# Altium schematic symbol library Isolator.SchLib: 324 symbols (part 3 of 4)
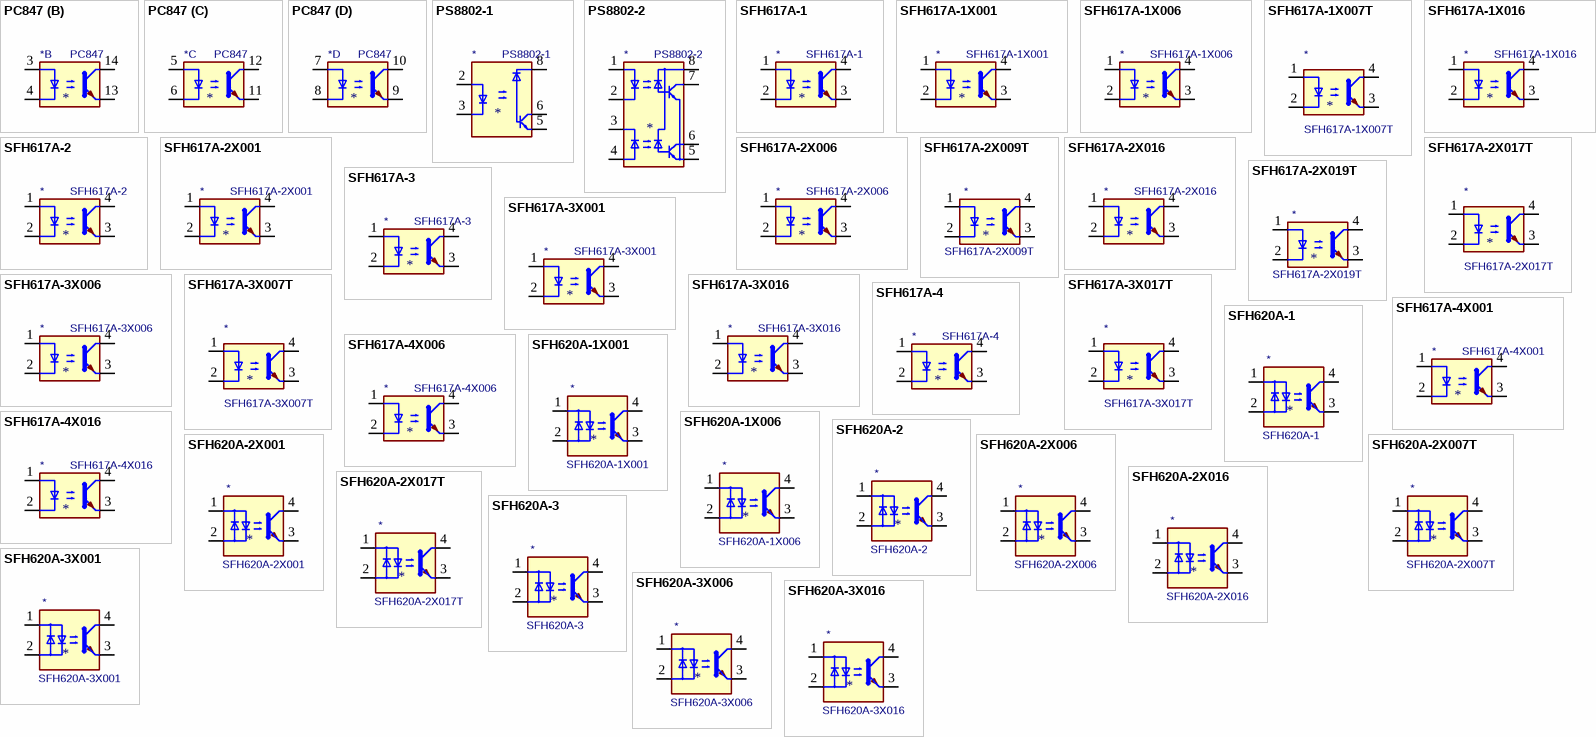
[diagram p11: symbols PC847 to SFH620A-3X016]

## SFH620A-2
designator *  value SFH620A-2
ki_keywords: Optocoupler, Phototransistor Output, 5300 VRMS, VCEO 70V, CTR% 63-200; ki_description: Optocoupler, Phototransistor Output, 5300 VRMS, VCEO 70V, CTR% 63-200 UL, cUL, BSI, THT PDIP-4; ki_fp_filters: DIP*W7.62mm*; Footprint: Package_DIP:DIP-4_W7.62mm; Supplier: http://www.vishay.com/docs/83675/sfh620a.pdf
footprint DIP-4_W7.62mm
pins: 1, 2, 3, 4

## SFH620A-2X001
designator *  value SFH620A-2X001
ki_keywords: Optocoupler, Phototransistor Output, 5300 VRMS, VCEO 70V, CTR% 63-200; ki_description: Optocoupler, Phototransistor Output, 5300 VRMS, VCEO 70V, CTR% 63-200 VDE, UL, CUL, BSI, THT PDIP-4; ki_fp_filters: DIP*W7.62mm*; Footprint: Package_DIP:DIP-4_W7.62mm; Supplier: http://www.vishay.com/docs/83675/sfh620a.pdf
footprint DIP-4_W7.62mm
pins: 1, 2, 3, 4

## SFH620A-2X006
designator *  value SFH620A-2X006
ki_keywords: Optocoupler, Phototransistor Output, 5300 VRMS, VCEO 70V, CTR% 63-200; ki_description: Optocoupler, Phototransistor Output, 5300 VRMS, VCEO 70V, CTR% 63-200 UL, cUL, BSI, THT PDIP-4; ki_fp_filters: DIP*W10.16mm*; Footprint: Package_DIP:DIP-4_W10.16mm; Supplier: http://www.vishay.com/docs/83675/sfh620a.pdf
footprint DIP-4_W10.16mm
pins: 1, 2, 3, 4

## SFH620A-2X007T
designator *  value SFH620A-2X007T
ki_keywords: Optocoupler, Phototransistor Output, 5300 VRMS, VCEO 70V, CTR% 63-200; ki_description: Optocoupler, Phototransistor Output, 5300 VRMS, VCEO 70V, CTR% 63-200 UL, cUL, BSI, SMD-4; ki_fp_filters: SMDIP*W9.53mm?Clearance8mm*; Footprint: Package_DIP:SMDIP-4_W9.53mm_Clearance8mm; Supplier: http://www.vishay.com/docs/83675/sfh620a.pdf
footprint SMDIP-4_W9.53mm_Clearance8mm
pins: 1, 2, 3, 4

## SFH620A-2X016
designator *  value SFH620A-2X016
ki_keywords: Optocoupler, Phototransistor Output, 5300 VRMS, VCEO 70V, CTR% 63-200; ki_description: Optocoupler, Phototransistor Output, 5300 VRMS, VCEO 70V, CTR% 63-200 VDE, UL, CUL, BSI, SMD-4; ki_fp_filters: DIP*W10.16mm*; Footprint: Package_DIP:DIP-4_W10.16mm; Supplier: http://www.vishay.com/docs/83675/sfh620a.pdf
footprint DIP-4_W10.16mm
pins: 1, 2, 3, 4

## SFH620A-2X017T
designator *  value SFH620A-2X017T
ki_keywords: Optocoupler, Phototransistor Output, 5300 VRMS, VCEO 70V, CTR% 63-200; ki_description: Optocoupler, Phototransistor Output, 5300 VRMS, VCEO 70V, CTR% 63-200 VDE, UL, CUL, BSI, SMD-4; ki_fp_filters: SMDIP*W9.53mm?Clearance8mm*; Footprint: Package_DIP:SMDIP-4_W9.53mm_Clearance8mm; Supplier: http://www.vishay.com/docs/83675/sfh620a.pdf
footprint SMDIP-4_W9.53mm_Clearance8mm
pins: 1, 2, 3, 4

## SFH620A-3
designator *  value SFH620A-3
ki_keywords: Optocoupler, Phototransistor Output, 5300 VRMS, VCEO 70V, CTR% 100-320; ki_description: Optocoupler, Phototransistor Output, 5300 VRMS, VCEO 70V, CTR% 100-320 UL, cUL, BSI, THT PDIP-4; ki_fp_filters: DIP*W7.62mm*; Footprint: Package_DIP:DIP-4_W7.62mm; Supplier: http://www.vishay.com/docs/83675/sfh620a.pdf
footprint DIP-4_W7.62mm
pins: 1, 2, 3, 4

## SFH620A-3X001
designator *  value SFH620A-3X001
ki_keywords: Optocoupler, Phototransistor Output, 5300 VRMS, VCEO 70V, CTR% 100-320; ki_description: Optocoupler, Phototransistor Output, 5300 VRMS, VCEO 70V, CTR% 100-320 VDE, UL, CUL, BSI, THT PDIP-4; ki_fp_filters: DIP*W7.62mm*; Footprint: Package_DIP:DIP-4_W7.62mm; Supplier: http://www.vishay.com/docs/83675/sfh620a.pdf
footprint DIP-4_W7.62mm
pins: 1, 2, 3, 4

## SFH620A-3X006
designator *  value SFH620A-3X006
ki_keywords: Optocoupler, Phototransistor Output, 5300 VRMS, VCEO 70V, CTR% 100-320; ki_description: Optocoupler, Phototransistor Output, 5300 VRMS, VCEO 70V, CTR% 100-320 UL, cUL, BSI, THT PDIP-4; ki_fp_filters: DIP*W10.16mm*; Footprint: Package_DIP:DIP-4_W10.16mm; Supplier: http://www.vishay.com/docs/83675/sfh620a.pdf
footprint DIP-4_W10.16mm
pins: 1, 2, 3, 4

## SFH620A-3X016
designator *  value SFH620A-3X016
ki_keywords: Optocoupler, Phototransistor Output, 5300 VRMS, VCEO 70V, CTR% 100-320; ki_description: Optocoupler, Phototransistor Output, 5300 VRMS, VCEO 70V, CTR% 100-320 VDE, UL, CUL, BSI, SMD-4; ki_fp_filters: DIP*W10.16mm*; Footprint: Package_DIP:DIP-4_W10.16mm; Supplier: http://www.vishay.com/docs/83675/sfh620a.pdf
footprint DIP-4_W10.16mm
pins: 1, 2, 3, 4

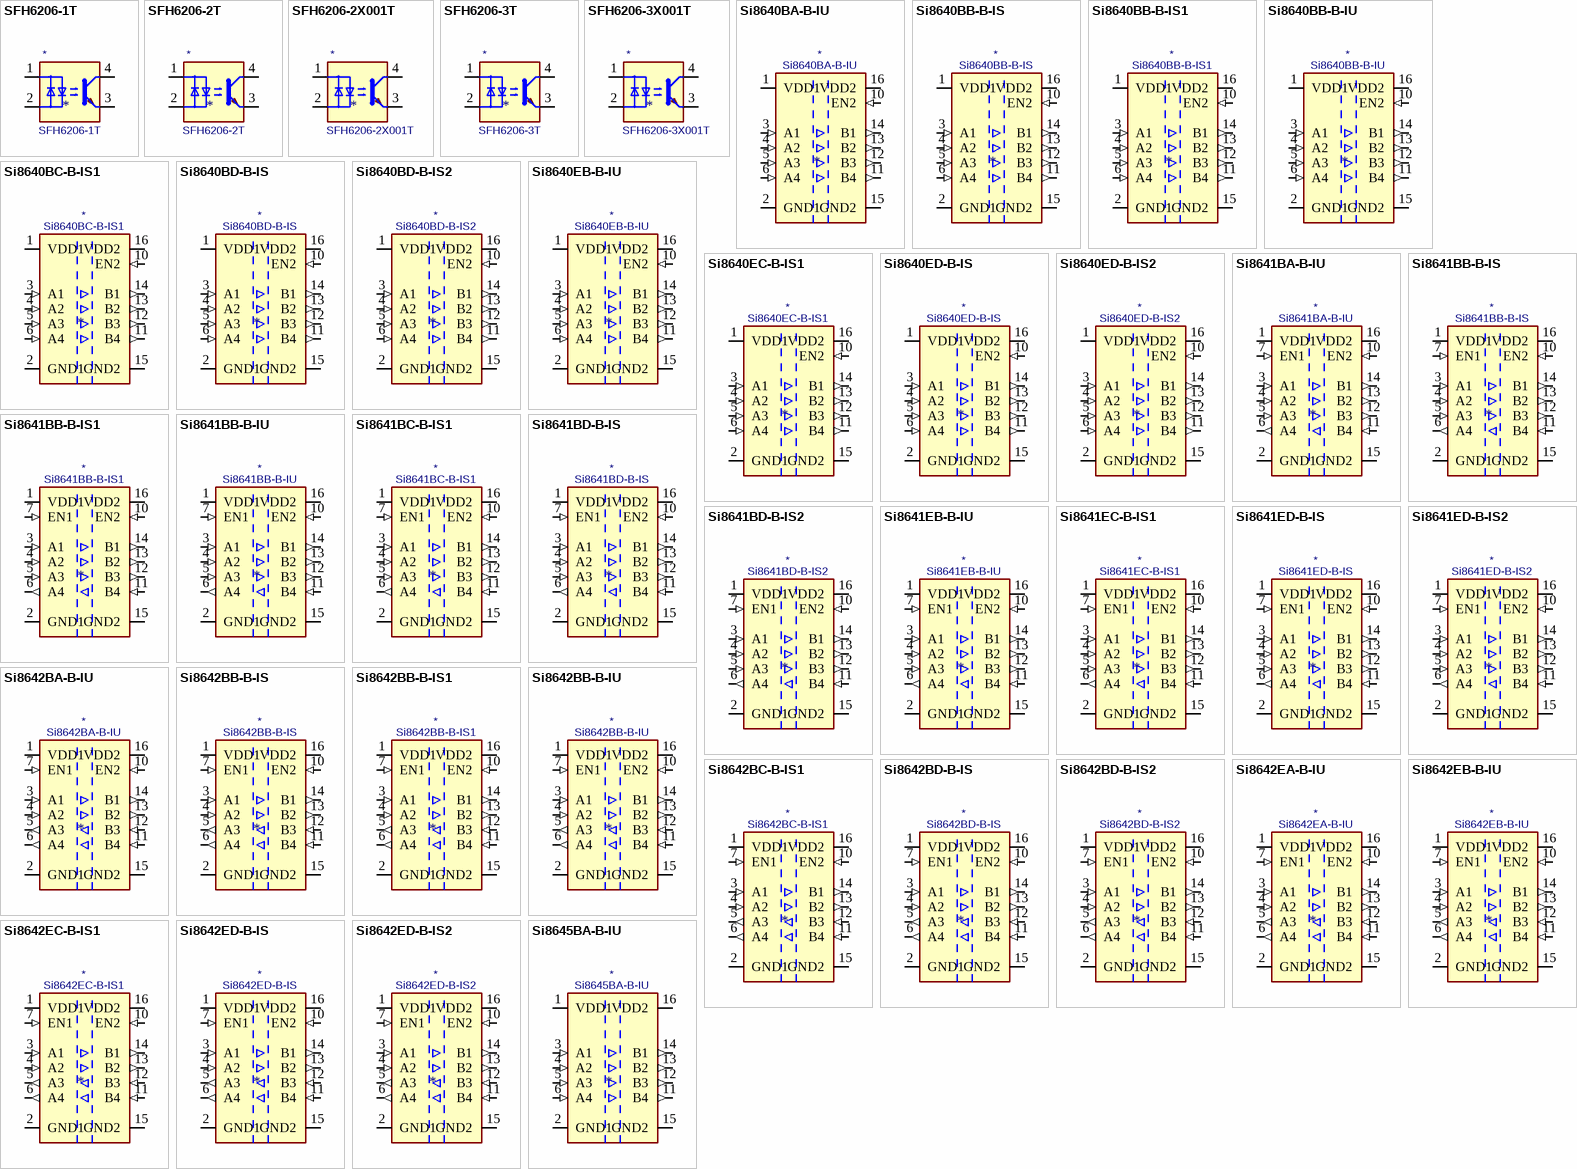
[diagram p6: symbols SFH6206-1T to Si8645BA-B-IU]

## SFH6206-1T
designator *  value SFH6206-1T
ki_keywords: Optocoupler, Phototransistor Output, 5300 VRMS, VCEO 70V, CTR% 40-125; ki_description: Optocoupler, Phototransistor Output, 5300 VRMS, VCEO 70V, CTR% 40-125, UL, cUL, BSI, SMD-4; ki_fp_filters: SMDIP*W9.53mm?Clearance8mm*; Footprint: Package_DIP:SMDIP-4_W9.53mm_Clearance8mm; Supplier: http://www.vishay.com/docs/83675/sfh620a.pdf
footprint SMDIP-4_W9.53mm_Clearance8mm
pins: 1, 2, 3, 4

## SFH6206-2T
designator *  value SFH6206-2T
ki_keywords: Optocoupler, Phototransistor Output, 5300 VRMS, VCEO 70V, CTR% 63-200; ki_description: Optocoupler, Phototransistor Output, 5300 VRMS, VCEO 70V, CTR% 63-200, UL, cUL, BSI, SMD-4; ki_fp_filters: SMDIP*W9.53mm?Clearance8mm*; Footprint: Package_DIP:SMDIP-4_W9.53mm_Clearance8mm; Supplier: http://www.vishay.com/docs/83675/sfh620a.pdf
footprint SMDIP-4_W9.53mm_Clearance8mm
pins: 1, 2, 3, 4

## SFH6206-2X001T
designator *  value SFH6206-2X001T
ki_keywords: Optocoupler, Phototransistor Output, 5300 VRMS, VCEO 70V, CTR% 63-200; ki_description: Optocoupler, Phototransistor Output, 5300 VRMS, VCEO 70V, CTR% 63-200, VDE, UL, CUL, BSI, SMD-4; ki_fp_filters: SMDIP*W9.53mm?Clearance8mm*; Footprint: Package_DIP:SMDIP-4_W9.53mm_Clearance8mm; Supplier: http://www.vishay.com/docs/83675/sfh620a.pdf
footprint SMDIP-4_W9.53mm_Clearance8mm
pins: 1, 2, 3, 4

## SFH6206-3T
designator *  value SFH6206-3T
ki_keywords: Optocoupler, Phototransistor Output, 5300 VRMS, VCEO 70V, CTR% 100-320; ki_description: Optocoupler, Phototransistor Output, 5300 VRMS, VCEO 70V, CTR% 100-320, UL, cUL, BSI, SMD-4; ki_fp_filters: SMDIP*W9.53mm?Clearance8mm*; Footprint: Package_DIP:SMDIP-4_W9.53mm_Clearance8mm; Supplier: http://www.vishay.com/docs/83675/sfh620a.pdf
footprint SMDIP-4_W9.53mm_Clearance8mm
pins: 1, 2, 3, 4

## SFH6206-3X001T
designator *  value SFH6206-3X001T
ki_keywords: Optocoupler, Phototransistor Output, 5300 VRMS, VCEO 70V, CTR% 100-320; ki_description: Optocoupler, Phototransistor Output, 5300 VRMS, VCEO 70V, CTR% 100-320, VDE, UL, CUL, BSI, SMD-4; ki_fp_filters: SMDIP*W9.53mm?Clearance8mm*; Footprint: Package_DIP:SMDIP-4_W9.53mm_Clearance8mm; Supplier: http://www.vishay.com/docs/83675/sfh620a.pdf
footprint SMDIP-4_W9.53mm_Clearance8mm
pins: 1, 2, 3, 4

## Si8640BA-B-IU
designator *  value Si8640BA-B-IU
ki_keywords: 4Ch 4In Quad Digital Isolator 150Mbps; ki_description: Low-Power Quad-Channel Digital Isolator, 150Mbps, 2.5-5.5V, 1.0kV isolation, Fail-Safe Low, QSOP-16; ki_fp_filters: QSOP*3.9x4.9mm*P0.635mm*; Footprint: Package_SO:QSOP-16_3.9x4.9mm_P0.635mm; Supplier: https://www.silabs.com/documents/public/data-sheets/si864x-datasheet.pdf
footprint QSOP-16_3.9x4.9mm_P0.635mm
pins: 1 VDD1 (power), 2 GND1 (power), 3 A1 (in), 4 A2 (in), 5 A3 (in), 6 A4 (in), 7 NC (in) hidden, 8 GND1 hidden, 9 GND2 hidden, 10 EN2 (in), 11 B4 (out), 12 B3 (out), 13 B2 (out), 14 B1 (out), 15 GND2 (power), 16 VDD2 (power)

## Si8640BB-B-IS
designator *  value Si8640BB-B-IS
ki_keywords: 4Ch 4In Quad Digital Isolator 150Mbps; ki_description: Low-Power Quad-Channel Digital Isolator, 150Mbps, 2.5-5.5V, 2.5kV isolation, Fail-Safe Low, SOIC-16W; ki_fp_filters: SOIC*7.5x10.3mm*P1.27mm*; Footprint: Package_SO:SOIC-16W_7.5x10.3mm_P1.27mm; Supplier: https://www.silabs.com/documents/public/data-sheets/si864x-datasheet.pdf
footprint SOIC-16W_7.5x10.3mm_P1.27mm
pins: 1 VDD1 (power), 2 GND1 (power), 3 A1 (in), 4 A2 (in), 5 A3 (in), 6 A4 (in), 7 NC (in) hidden, 8 GND1 hidden, 9 GND2 hidden, 10 EN2 (in), 11 B4 (out), 12 B3 (out), 13 B2 (out), 14 B1 (out), 15 GND2 (power), 16 VDD2 (power)

## Si8640BB-B-IS1
designator *  value Si8640BB-B-IS1
ki_keywords: 4Ch 4In Quad Digital Isolator 150Mbps; ki_description: Low-Power Quad-Channel Digital Isolator, 150Mbps, 2.5-5.5V, 2.5kV isolation, Fail-Safe Low, SOIC-16; ki_fp_filters: SOIC*3.9x9.9mm*P1.27mm*; Footprint: Package_SO:SOIC-16_3.9x9.9mm_P1.27mm; Supplier: https://www.silabs.com/documents/public/data-sheets/si864x-datasheet.pdf
footprint SOIC-16_3.9x9.9mm_P1.27mm
pins: 1 VDD1 (power), 2 GND1 (power), 3 A1 (in), 4 A2 (in), 5 A3 (in), 6 A4 (in), 7 NC (in) hidden, 8 GND1 hidden, 9 GND2 hidden, 10 EN2 (in), 11 B4 (out), 12 B3 (out), 13 B2 (out), 14 B1 (out), 15 GND2 (power), 16 VDD2 (power)

## Si8640BB-B-IU
designator *  value Si8640BB-B-IU
ki_keywords: 4Ch 4In Quad Digital Isolator 150Mbps; ki_description: Low-Power Quad-Channel Digital Isolator, 150Mbps, 2.5-5.5V, 2.5kV isolation, Fail-Safe Low, QSOP-16; ki_fp_filters: QSOP*3.9x4.9mm*P0.635mm*; Footprint: Package_SO:QSOP-16_3.9x4.9mm_P0.635mm; Supplier: https://www.silabs.com/documents/public/data-sheets/si864x-datasheet.pdf
footprint QSOP-16_3.9x4.9mm_P0.635mm
pins: 1 VDD1 (power), 2 GND1 (power), 3 A1 (in), 4 A2 (in), 5 A3 (in), 6 A4 (in), 7 NC (in) hidden, 8 GND1 hidden, 9 GND2 hidden, 10 EN2 (in), 11 B4 (out), 12 B3 (out), 13 B2 (out), 14 B1 (out), 15 GND2 (power), 16 VDD2 (power)

## Si8640BC-B-IS1
designator *  value Si8640BC-B-IS1
ki_keywords: 4Ch 4In Quad Digital Isolator 150Mbps; ki_description: Low-Power Quad-Channel Digital Isolator, 150Mbps, 2.5-5.5V, 3.75kV isolation, Fail-Safe Low, SOIC-16; ki_fp_filters: SOIC*3.9x9.9mm*P1.27mm*; Footprint: Package_SO:SOIC-16_3.9x9.9mm_P1.27mm; Supplier: https://www.silabs.com/documents/public/data-sheets/si864x-datasheet.pdf
footprint SOIC-16_3.9x9.9mm_P1.27mm
pins: 1 VDD1 (power), 2 GND1 (power), 3 A1 (in), 4 A2 (in), 5 A3 (in), 6 A4 (in), 7 NC (in) hidden, 8 GND1 hidden, 9 GND2 hidden, 10 EN2 (in), 11 B4 (out), 12 B3 (out), 13 B2 (out), 14 B1 (out), 15 GND2 (power), 16 VDD2 (power)

## Si8640BD-B-IS
designator *  value Si8640BD-B-IS
ki_keywords: 4Ch 4In Quad Digital Isolator 150Mbps; ki_description: Low-Power Quad-Channel Digital Isolator, 150Mbps, 2.5-5.5V, 5.0kV isolation, Fail-Safe Low, SOIC-16W; ki_fp_filters: SOIC*7.5x10.3mm*P1.27mm*; Footprint: Package_SO:SOIC-16W_7.5x10.3mm_P1.27mm; Supplier: https://www.silabs.com/documents/public/data-sheets/si864x-datasheet.pdf
footprint SOIC-16W_7.5x10.3mm_P1.27mm
pins: 1 VDD1 (power), 2 GND1 (power), 3 A1 (in), 4 A2 (in), 5 A3 (in), 6 A4 (in), 7 NC (in) hidden, 8 GND1 hidden, 9 GND2 hidden, 10 EN2 (in), 11 B4 (out), 12 B3 (out), 13 B2 (out), 14 B1 (out), 15 GND2 (power), 16 VDD2 (power)

## Si8640BD-B-IS2
designator *  value Si8640BD-B-IS2
ki_keywords: 4Ch 4In Quad Digital Isolator 150Mbps; ki_description: Low-Power Quad-Channel Digital Isolator, 150Mbps, 2.5-5.5V, 5.0kV isolation, Fail-Safe Low, 8mm creepage, SOIC-16W; ki_fp_filters: SOIC*7.5x10.3mm*P1.27mm*; Footprint: Package_SO:SOIC-16W_7.5x10.3mm_P1.27mm; Supplier: https://www.silabs.com/documents/public/data-sheets/si864x-datasheet.pdf
footprint SOIC-16W_7.5x10.3mm_P1.27mm
pins: 1 VDD1 (power), 2 GND1 (power), 3 A1 (in), 4 A2 (in), 5 A3 (in), 6 A4 (in), 7 NC (in) hidden, 8 GND1 hidden, 9 GND2 hidden, 10 EN2 (in), 11 B4 (out), 12 B3 (out), 13 B2 (out), 14 B1 (out), 15 GND2 (power), 16 VDD2 (power)

## Si8640EB-B-IU
designator *  value Si8640EB-B-IU
ki_keywords: 4Ch 4In Quad Digital Isolator 150Mbps; ki_description: Low-Power Quad-Channel Digital Isolator, 150Mbps, 2.5-5.5V, 2.5kV isolation, Fail-Safe High, QSOP-16; ki_fp_filters: QSOP*3.9x4.9mm*P0.635mm*; Footprint: Package_SO:QSOP-16_3.9x4.9mm_P0.635mm; Supplier: https://www.silabs.com/documents/public/data-sheets/si864x-datasheet.pdf
footprint QSOP-16_3.9x4.9mm_P0.635mm
pins: 1 VDD1 (power), 2 GND1 (power), 3 A1 (in), 4 A2 (in), 5 A3 (in), 6 A4 (in), 7 NC (in) hidden, 8 GND1 hidden, 9 GND2 hidden, 10 EN2 (in), 11 B4 (out), 12 B3 (out), 13 B2 (out), 14 B1 (out), 15 GND2 (power), 16 VDD2 (power)

## Si8640EC-B-IS1
designator *  value Si8640EC-B-IS1
ki_keywords: 4Ch 4In Quad Digital Isolator 150Mbps; ki_description: Low-Power Quad-Channel Digital Isolator, 150Mbps, 2.5-5.5V, 3.75kV isolation, Fail-Safe High, SOIC-16; ki_fp_filters: SOIC*3.9x9.9mm*P1.27mm*; Footprint: Package_SO:SOIC-16_3.9x9.9mm_P1.27mm; Supplier: https://www.silabs.com/documents/public/data-sheets/si864x-datasheet.pdf
footprint SOIC-16_3.9x9.9mm_P1.27mm
pins: 1 VDD1 (power), 2 GND1 (power), 3 A1 (in), 4 A2 (in), 5 A3 (in), 6 A4 (in), 7 NC (in) hidden, 8 GND1 hidden, 9 GND2 hidden, 10 EN2 (in), 11 B4 (out), 12 B3 (out), 13 B2 (out), 14 B1 (out), 15 GND2 (power), 16 VDD2 (power)

## Si8640ED-B-IS
designator *  value Si8640ED-B-IS
ki_keywords: 4Ch 4In Quad Digital Isolator 150Mbps; ki_description: Low-Power Quad-Channel Digital Isolator, 150Mbps, 2.5-5.5V, 5.0kV isolation, Fail-Safe High, SOIC-16W; ki_fp_filters: SOIC*7.5x10.3mm*P1.27mm*; Footprint: Package_SO:SOIC-16W_7.5x10.3mm_P1.27mm; Supplier: https://www.silabs.com/documents/public/data-sheets/si864x-datasheet.pdf
footprint SOIC-16W_7.5x10.3mm_P1.27mm
pins: 1 VDD1 (power), 2 GND1 (power), 3 A1 (in), 4 A2 (in), 5 A3 (in), 6 A4 (in), 7 NC (in) hidden, 8 GND1 hidden, 9 GND2 hidden, 10 EN2 (in), 11 B4 (out), 12 B3 (out), 13 B2 (out), 14 B1 (out), 15 GND2 (power), 16 VDD2 (power)

## Si8640ED-B-IS2
designator *  value Si8640ED-B-IS2
ki_keywords: 4Ch 4In Quad Digital Isolator 150Mbps; ki_description: Low-Power Quad-Channel Digital Isolator, 150Mbps, 2.5-5.5V, 5.0kV isolation, Fail-Safe High, 8mm creepage, SOIC-16W; ki_fp_filters: SOIC*7.5x10.3mm*P1.27mm*; Footprint: Package_SO:SOIC-16W_7.5x10.3mm_P1.27mm; Supplier: https://www.silabs.com/documents/public/data-sheets/si864x-datasheet.pdf
footprint SOIC-16W_7.5x10.3mm_P1.27mm
pins: 1 VDD1 (power), 2 GND1 (power), 3 A1 (in), 4 A2 (in), 5 A3 (in), 6 A4 (in), 7 NC (in) hidden, 8 GND1 hidden, 9 GND2 hidden, 10 EN2 (in), 11 B4 (out), 12 B3 (out), 13 B2 (out), 14 B1 (out), 15 GND2 (power), 16 VDD2 (power)

## Si8641BA-B-IU
designator *  value Si8641BA-B-IU
ki_keywords: 4Ch 3In 1Out Quad Digital Isolator 150Mbps; ki_description: Low-Power Quad-Channel Digital Isolator, 150Mbps, 2.5-5.5V, 1.0kV isolation, Fail-Safe Low, QSOP-16; ki_fp_filters: QSOP*3.9x4.9mm*P0.635mm*; Footprint: Package_SO:QSOP-16_3.9x4.9mm_P0.635mm; Supplier: https://www.silabs.com/documents/public/data-sheets/si864x-datasheet.pdf
footprint QSOP-16_3.9x4.9mm_P0.635mm
pins: 1 VDD1 (power), 2 GND1 (power), 3 A1 (in), 4 A2 (in), 5 A3 (in), 6 A4 (out), 7 EN1 (in), 8 GND1 hidden, 9 GND2 hidden, 10 EN2 (in), 11 B4 (in), 12 B3 (out), 13 B2 (out), 14 B1 (out), 15 GND2 (power), 16 VDD2 (power)

## Si8641BB-B-IS
designator *  value Si8641BB-B-IS
ki_keywords: 4Ch 3In 1Out Quad Digital Isolator 150Mbps; ki_description: Low-Power Quad-Channel Digital Isolator, 150Mbps, 2.5-5.5V, 2.5kV isolation, Fail-Safe Low, SOIC-16W; ki_fp_filters: SOIC*7.5x10.3mm*P1.27mm*; Footprint: Package_SO:SOIC-16W_7.5x10.3mm_P1.27mm; Supplier: https://www.silabs.com/documents/public/data-sheets/si864x-datasheet.pdf
footprint SOIC-16W_7.5x10.3mm_P1.27mm
pins: 1 VDD1 (power), 2 GND1 (power), 3 A1 (in), 4 A2 (in), 5 A3 (in), 6 A4 (out), 7 EN1 (in), 8 GND1 hidden, 9 GND2 hidden, 10 EN2 (in), 11 B4 (in), 12 B3 (out), 13 B2 (out), 14 B1 (out), 15 GND2 (power), 16 VDD2 (power)

## Si8641BB-B-IS1
designator *  value Si8641BB-B-IS1
ki_keywords: 4Ch 3In 1Out Quad Digital Isolator 150Mbps; ki_description: Low-Power Quad-Channel Digital Isolator, 150Mbps, 2.5-5.5V, 2.5kV isolation, Fail-Safe Low, SOIC-16; ki_fp_filters: SOIC*3.9x9.9mm*P1.27mm*; Footprint: Package_SO:SOIC-16_3.9x9.9mm_P1.27mm; Supplier: https://www.silabs.com/documents/public/data-sheets/si864x-datasheet.pdf
footprint SOIC-16_3.9x9.9mm_P1.27mm
pins: 1 VDD1 (power), 2 GND1 (power), 3 A1 (in), 4 A2 (in), 5 A3 (in), 6 A4 (out), 7 EN1 (in), 8 GND1 hidden, 9 GND2 hidden, 10 EN2 (in), 11 B4 (in), 12 B3 (out), 13 B2 (out), 14 B1 (out), 15 GND2 (power), 16 VDD2 (power)

## Si8641BB-B-IU
designator *  value Si8641BB-B-IU
ki_keywords: 4Ch 3In 1Out Quad Digital Isolator 150Mbps; ki_description: Low-Power Quad-Channel Digital Isolator, 150Mbps, 2.5-5.5V, 2.5kV isolation, Fail-Safe Low, QSOP-16; ki_fp_filters: QSOP*3.9x4.9mm*P0.635mm*; Footprint: Package_SO:QSOP-16_3.9x4.9mm_P0.635mm; Supplier: https://www.silabs.com/documents/public/data-sheets/si864x-datasheet.pdf
footprint QSOP-16_3.9x4.9mm_P0.635mm
pins: 1 VDD1 (power), 2 GND1 (power), 3 A1 (in), 4 A2 (in), 5 A3 (in), 6 A4 (out), 7 EN1 (in), 8 GND1 hidden, 9 GND2 hidden, 10 EN2 (in), 11 B4 (in), 12 B3 (out), 13 B2 (out), 14 B1 (out), 15 GND2 (power), 16 VDD2 (power)

## Si8641BC-B-IS1
designator *  value Si8641BC-B-IS1
ki_keywords: 4Ch 3In 1Out Quad Digital Isolator 150Mbps; ki_description: Low-Power Quad-Channel Digital Isolator, 150Mbps, 2.5-5.5V, 3.75kV isolation, Fail-Safe Low, SOIC-16; ki_fp_filters: SOIC*3.9x9.9mm*P1.27mm*; Footprint: Package_SO:SOIC-16_3.9x9.9mm_P1.27mm; Supplier: https://www.silabs.com/documents/public/data-sheets/si864x-datasheet.pdf
footprint SOIC-16_3.9x9.9mm_P1.27mm
pins: 1 VDD1 (power), 2 GND1 (power), 3 A1 (in), 4 A2 (in), 5 A3 (in), 6 A4 (out), 7 EN1 (in), 8 GND1 hidden, 9 GND2 hidden, 10 EN2 (in), 11 B4 (in), 12 B3 (out), 13 B2 (out), 14 B1 (out), 15 GND2 (power), 16 VDD2 (power)

## Si8641BD-B-IS
designator *  value Si8641BD-B-IS
ki_keywords: 4Ch 3In 1Out Quad Digital Isolator 150Mbps; ki_description: Low-Power Quad-Channel Digital Isolator, 150Mbps, 2.5-5.5V, 5.0kV isolation, Fail-Safe Low, SOIC-16W; ki_fp_filters: SOIC*7.5x10.3mm*P1.27mm*; Footprint: Package_SO:SOIC-16W_7.5x10.3mm_P1.27mm; Supplier: https://www.silabs.com/documents/public/data-sheets/si864x-datasheet.pdf
footprint SOIC-16W_7.5x10.3mm_P1.27mm
pins: 1 VDD1 (power), 2 GND1 (power), 3 A1 (in), 4 A2 (in), 5 A3 (in), 6 A4 (out), 7 EN1 (in), 8 GND1 hidden, 9 GND2 hidden, 10 EN2 (in), 11 B4 (in), 12 B3 (out), 13 B2 (out), 14 B1 (out), 15 GND2 (power), 16 VDD2 (power)

## Si8641BD-B-IS2
designator *  value Si8641BD-B-IS2
ki_keywords: 4Ch 3In 1Out Quad Digital Isolator 150Mbps; ki_description: Low-Power Quad-Channel Digital Isolator, 150Mbps, 2.5-5.5V, 5.0kV isolation, Fail-Safe Low, 8mm creepage, SOIC-16W; ki_fp_filters: SOIC*7.5x10.3mm*P1.27mm*; Footprint: Package_SO:SOIC-16W_7.5x10.3mm_P1.27mm; Supplier: https://www.silabs.com/documents/public/data-sheets/si864x-datasheet.pdf
footprint SOIC-16W_7.5x10.3mm_P1.27mm
pins: 1 VDD1 (power), 2 GND1 (power), 3 A1 (in), 4 A2 (in), 5 A3 (in), 6 A4 (out), 7 EN1 (in), 8 GND1 hidden, 9 GND2 hidden, 10 EN2 (in), 11 B4 (in), 12 B3 (out), 13 B2 (out), 14 B1 (out), 15 GND2 (power), 16 VDD2 (power)

## Si8641EB-B-IU
designator *  value Si8641EB-B-IU
ki_keywords: 4Ch 3In 1Out Quad Digital Isolator 150Mbps; ki_description: Low-Power Quad-Channel Digital Isolator, 150Mbps, 2.5-5.5V, 2.5kV isolation, Fail-Safe High, QSOP-16; ki_fp_filters: QSOP*3.9x4.9mm*P0.635mm*; Footprint: Package_SO:QSOP-16_3.9x4.9mm_P0.635mm; Supplier: https://www.silabs.com/documents/public/data-sheets/si864x-datasheet.pdf
footprint QSOP-16_3.9x4.9mm_P0.635mm
pins: 1 VDD1 (power), 2 GND1 (power), 3 A1 (in), 4 A2 (in), 5 A3 (in), 6 A4 (out), 7 EN1 (in), 8 GND1 hidden, 9 GND2 hidden, 10 EN2 (in), 11 B4 (in), 12 B3 (out), 13 B2 (out), 14 B1 (out), 15 GND2 (power), 16 VDD2 (power)

## Si8641EC-B-IS1
designator *  value Si8641EC-B-IS1
ki_keywords: 4Ch 3In 1Out Quad Digital Isolator 150Mbps; ki_description: Low-Power Quad-Channel Digital Isolator, 150Mbps, 2.5-5.5V, 3.75kV isolation, Fail-Safe High, SOIC-16; ki_fp_filters: SOIC*3.9x9.9mm*P1.27mm*; Footprint: Package_SO:SOIC-16_3.9x9.9mm_P1.27mm; Supplier: https://www.silabs.com/documents/public/data-sheets/si864x-datasheet.pdf
footprint SOIC-16_3.9x9.9mm_P1.27mm
pins: 1 VDD1 (power), 2 GND1 (power), 3 A1 (in), 4 A2 (in), 5 A3 (in), 6 A4 (out), 7 EN1 (in), 8 GND1 hidden, 9 GND2 hidden, 10 EN2 (in), 11 B4 (in), 12 B3 (out), 13 B2 (out), 14 B1 (out), 15 GND2 (power), 16 VDD2 (power)

## Si8641ED-B-IS
designator *  value Si8641ED-B-IS
ki_keywords: 4Ch 3In 1Out Quad Digital Isolator 150Mbps; ki_description: Low-Power Quad-Channel Digital Isolator, 150Mbps, 2.5-5.5V, 5.0kV isolation, Fail-Safe High, SOIC-16W; ki_fp_filters: SOIC*7.5x10.3mm*P1.27mm*; Footprint: Package_SO:SOIC-16W_7.5x10.3mm_P1.27mm; Supplier: https://www.silabs.com/documents/public/data-sheets/si864x-datasheet.pdf
footprint SOIC-16W_7.5x10.3mm_P1.27mm
pins: 1 VDD1 (power), 2 GND1 (power), 3 A1 (in), 4 A2 (in), 5 A3 (in), 6 A4 (out), 7 EN1 (in), 8 GND1 hidden, 9 GND2 hidden, 10 EN2 (in), 11 B4 (in), 12 B3 (out), 13 B2 (out), 14 B1 (out), 15 GND2 (power), 16 VDD2 (power)

## Si8641ED-B-IS2
designator *  value Si8641ED-B-IS2
ki_keywords: 4Ch 3In 1Out Quad Digital Isolator 150Mbps; ki_description: Low-Power Quad-Channel Digital Isolator, 150Mbps, 2.5-5.5V, 5.0kV isolation, Fail-Safe High, 8mm creepage, SOIC-16W; ki_fp_filters: SOIC*7.5x10.3mm*P1.27mm*; Footprint: Package_SO:SOIC-16W_7.5x10.3mm_P1.27mm; Supplier: https://www.silabs.com/documents/public/data-sheets/si864x-datasheet.pdf
footprint SOIC-16W_7.5x10.3mm_P1.27mm
pins: 1 VDD1 (power), 2 GND1 (power), 3 A1 (in), 4 A2 (in), 5 A3 (in), 6 A4 (out), 7 EN1 (in), 8 GND1 hidden, 9 GND2 hidden, 10 EN2 (in), 11 B4 (in), 12 B3 (out), 13 B2 (out), 14 B1 (out), 15 GND2 (power), 16 VDD2 (power)

## Si8642BA-B-IU
designator *  value Si8642BA-B-IU
ki_keywords: 4Ch 2In 2Out Quad Digital Isolator 150Mbps; ki_description: Low-Power Quad-Channel Digital Isolator, 150Mbps, 2.5-5.5V, 1.0kV isolation, Fail-Safe Low, QSOP-16; ki_fp_filters: QSOP*3.9x4.9mm*P0.635mm*; Footprint: Package_SO:QSOP-16_3.9x4.9mm_P0.635mm; Supplier: https://www.silabs.com/documents/public/data-sheets/si864x-datasheet.pdf
footprint QSOP-16_3.9x4.9mm_P0.635mm
pins: 1 VDD1 (power), 2 GND1 (power), 3 A1 (in), 4 A2 (in), 5 A3 (out), 6 A4 (out), 7 EN1 (in), 8 GND1 hidden, 9 GND2 hidden, 10 EN2 (in), 11 B4 (in), 12 B3 (in), 13 B2 (out), 14 B1 (out), 15 GND2 (power), 16 VDD2 (power)

## Si8642BB-B-IS
designator *  value Si8642BB-B-IS
ki_keywords: 4Ch 2In 2Out Quad Digital Isolator 150Mbps; ki_description: Low-Power Quad-Channel Digital Isolator, 150Mbps, 2.5-5.5V, 2.5kV isolation, Fail-Safe Low, SOIC-16W; ki_fp_filters: SOIC*7.5x10.3mm*P1.27mm*; Footprint: Package_SO:SOIC-16W_7.5x10.3mm_P1.27mm; Supplier: https://www.silabs.com/documents/public/data-sheets/si864x-datasheet.pdf
footprint SOIC-16W_7.5x10.3mm_P1.27mm
pins: 1 VDD1 (power), 2 GND1 (power), 3 A1 (in), 4 A2 (in), 5 A3 (out), 6 A4 (out), 7 EN1 (in), 8 GND1 hidden, 9 GND2 hidden, 10 EN2 (in), 11 B4 (in), 12 B3 (in), 13 B2 (out), 14 B1 (out), 15 GND2 (power), 16 VDD2 (power)

## Si8642BB-B-IS1
designator *  value Si8642BB-B-IS1
ki_keywords: 4Ch 2In 2Out Quad Digital Isolator 150Mbps; ki_description: Low-Power Quad-Channel Digital Isolator, 150Mbps, 2.5-5.5V, 2.5kV isolation, Fail-Safe Low, SOIC-16; ki_fp_filters: SOIC*3.9x9.9mm*P1.27mm*; Footprint: Package_SO:SOIC-16_3.9x9.9mm_P1.27mm; Supplier: https://www.silabs.com/documents/public/data-sheets/si864x-datasheet.pdf
footprint SOIC-16_3.9x9.9mm_P1.27mm
pins: 1 VDD1 (power), 2 GND1 (power), 3 A1 (in), 4 A2 (in), 5 A3 (out), 6 A4 (out), 7 EN1 (in), 8 GND1 hidden, 9 GND2 hidden, 10 EN2 (in), 11 B4 (in), 12 B3 (in), 13 B2 (out), 14 B1 (out), 15 GND2 (power), 16 VDD2 (power)

## Si8642BB-B-IU
designator *  value Si8642BB-B-IU
ki_keywords: 4Ch 2In 2Out Quad Digital Isolator 150Mbps; ki_description: Low-Power Quad-Channel Digital Isolator, 150Mbps, 2.5-5.5V, 2.5kV isolation, Fail-Safe Low, QSOP-16; ki_fp_filters: QSOP*3.9x4.9mm*P0.635mm*; Footprint: Package_SO:QSOP-16_3.9x4.9mm_P0.635mm; Supplier: https://www.silabs.com/documents/public/data-sheets/si864x-datasheet.pdf
footprint QSOP-16_3.9x4.9mm_P0.635mm
pins: 1 VDD1 (power), 2 GND1 (power), 3 A1 (in), 4 A2 (in), 5 A3 (out), 6 A4 (out), 7 EN1 (in), 8 GND1 hidden, 9 GND2 hidden, 10 EN2 (in), 11 B4 (in), 12 B3 (in), 13 B2 (out), 14 B1 (out), 15 GND2 (power), 16 VDD2 (power)

## Si8642BC-B-IS1
designator *  value Si8642BC-B-IS1
ki_keywords: 4Ch 2In 2Out Quad Digital Isolator 150Mbps; ki_description: Low-Power Quad-Channel Digital Isolator, 150Mbps, 2.5-5.5V, 3.75kV isolation, Fail-Safe Low, SOIC-16; ki_fp_filters: SOIC*3.9x9.9mm*P1.27mm*; Footprint: Package_SO:SOIC-16_3.9x9.9mm_P1.27mm; Supplier: https://www.silabs.com/documents/public/data-sheets/si864x-datasheet.pdf
footprint SOIC-16_3.9x9.9mm_P1.27mm
pins: 1 VDD1 (power), 2 GND1 (power), 3 A1 (in), 4 A2 (in), 5 A3 (out), 6 A4 (out), 7 EN1 (in), 8 GND1 hidden, 9 GND2 hidden, 10 EN2 (in), 11 B4 (in), 12 B3 (in), 13 B2 (out), 14 B1 (out), 15 GND2 (power), 16 VDD2 (power)

## Si8642BD-B-IS
designator *  value Si8642BD-B-IS
ki_keywords: 4Ch 2In 2Out Quad Digital Isolator 150Mbps; ki_description: Low-Power Quad-Channel Digital Isolator, 150Mbps, 2.5-5.5V, 5.0kV isolation, Fail-Safe Low, SOIC-16W; ki_fp_filters: SOIC*7.5x10.3mm*P1.27mm*; Footprint: Package_SO:SOIC-16W_7.5x10.3mm_P1.27mm; Supplier: https://www.silabs.com/documents/public/data-sheets/si864x-datasheet.pdf
footprint SOIC-16W_7.5x10.3mm_P1.27mm
pins: 1 VDD1 (power), 2 GND1 (power), 3 A1 (in), 4 A2 (in), 5 A3 (out), 6 A4 (out), 7 EN1 (in), 8 GND1 hidden, 9 GND2 hidden, 10 EN2 (in), 11 B4 (in), 12 B3 (in), 13 B2 (out), 14 B1 (out), 15 GND2 (power), 16 VDD2 (power)

## Si8642BD-B-IS2
designator *  value Si8642BD-B-IS2
ki_keywords: 4Ch 2In 2Out Quad Digital Isolator 150Mbps; ki_description: Low-Power Quad-Channel Digital Isolator, 150Mbps, 2.5-5.5V, 5.0kV isolation, Fail-Safe Low, 8mm creepage, SOIC-16W; ki_fp_filters: SOIC*7.5x10.3mm*P1.27mm*; Footprint: Package_SO:SOIC-16W_7.5x10.3mm_P1.27mm; Supplier: https://www.silabs.com/documents/public/data-sheets/si864x-datasheet.pdf
footprint SOIC-16W_7.5x10.3mm_P1.27mm
pins: 1 VDD1 (power), 2 GND1 (power), 3 A1 (in), 4 A2 (in), 5 A3 (out), 6 A4 (out), 7 EN1 (in), 8 GND1 hidden, 9 GND2 hidden, 10 EN2 (in), 11 B4 (in), 12 B3 (in), 13 B2 (out), 14 B1 (out), 15 GND2 (power), 16 VDD2 (power)

## Si8642EA-B-IU
designator *  value Si8642EA-B-IU
ki_keywords: 4Ch 2In 2Out Quad Digital Isolator 150Mbps; ki_description: Low-Power Quad-Channel Digital Isolator, 150Mbps, 2.5-5.5V, 1.0kV isolation, Fail-Safe High, QSOP-16; ki_fp_filters: QSOP*3.9x4.9mm*P0.635mm*; Footprint: Package_SO:QSOP-16_3.9x4.9mm_P0.635mm; Supplier: https://www.silabs.com/documents/public/data-sheets/si864x-datasheet.pdf
footprint QSOP-16_3.9x4.9mm_P0.635mm
pins: 1 VDD1 (power), 2 GND1 (power), 3 A1 (in), 4 A2 (in), 5 A3 (out), 6 A4 (out), 7 EN1 (in), 8 GND1 hidden, 9 GND2 hidden, 10 EN2 (in), 11 B4 (in), 12 B3 (in), 13 B2 (out), 14 B1 (out), 15 GND2 (power), 16 VDD2 (power)

## Si8642EB-B-IU
designator *  value Si8642EB-B-IU
ki_keywords: 4Ch 2In 2Out Quad Digital Isolator 150Mbps; ki_description: Low-Power Quad-Channel Digital Isolator, 150Mbps, 2.5-5.5V, 2.5kV isolation, Fail-Safe High, QSOP-16; ki_fp_filters: QSOP*3.9x4.9mm*P0.635mm*; Footprint: Package_SO:QSOP-16_3.9x4.9mm_P0.635mm; Supplier: https://www.silabs.com/documents/public/data-sheets/si864x-datasheet.pdf
footprint QSOP-16_3.9x4.9mm_P0.635mm
pins: 1 VDD1 (power), 2 GND1 (power), 3 A1 (in), 4 A2 (in), 5 A3 (out), 6 A4 (out), 7 EN1 (in), 8 GND1 hidden, 9 GND2 hidden, 10 EN2 (in), 11 B4 (in), 12 B3 (in), 13 B2 (out), 14 B1 (out), 15 GND2 (power), 16 VDD2 (power)

## Si8642EC-B-IS1
designator *  value Si8642EC-B-IS1
ki_keywords: 4Ch 2In 2Out Quad Digital Isolator 150Mbps; ki_description: Low-Power Quad-Channel Digital Isolator, 150Mbps, 2.5-5.5V, 3.75kV isolation, Fail-Safe High, SOIC-16; ki_fp_filters: SOIC*3.9x9.9mm*P1.27mm*; Footprint: Package_SO:SOIC-16_3.9x9.9mm_P1.27mm; Supplier: https://www.silabs.com/documents/public/data-sheets/si864x-datasheet.pdf
footprint SOIC-16_3.9x9.9mm_P1.27mm
pins: 1 VDD1 (power), 2 GND1 (power), 3 A1 (in), 4 A2 (in), 5 A3 (out), 6 A4 (out), 7 EN1 (in), 8 GND1 hidden, 9 GND2 hidden, 10 EN2 (in), 11 B4 (in), 12 B3 (in), 13 B2 (out), 14 B1 (out), 15 GND2 (power), 16 VDD2 (power)

## Si8642ED-B-IS
designator *  value Si8642ED-B-IS
ki_keywords: 4Ch 2In 2Out Quad Digital Isolator 150Mbps; ki_description: Low-Power Quad-Channel Digital Isolator, 150Mbps, 2.5-5.5V, 5.0kV isolation, Fail-Safe High, SOIC-16W; ki_fp_filters: SOIC*7.5x10.3mm*P1.27mm*; Footprint: Package_SO:SOIC-16W_7.5x10.3mm_P1.27mm; Supplier: https://www.silabs.com/documents/public/data-sheets/si864x-datasheet.pdf
footprint SOIC-16W_7.5x10.3mm_P1.27mm
pins: 1 VDD1 (power), 2 GND1 (power), 3 A1 (in), 4 A2 (in), 5 A3 (out), 6 A4 (out), 7 EN1 (in), 8 GND1 hidden, 9 GND2 hidden, 10 EN2 (in), 11 B4 (in), 12 B3 (in), 13 B2 (out), 14 B1 (out), 15 GND2 (power), 16 VDD2 (power)

## Si8642ED-B-IS2
designator *  value Si8642ED-B-IS2
ki_keywords: 4Ch 2In 2Out Quad Digital Isolator 150Mbps; ki_description: Low-Power Quad-Channel Digital Isolator, 150Mbps, 2.5-5.5V, 5.0kV isolation, Fail-Safe High, 8mm creepage, SOIC-16W; ki_fp_filters: SOIC*7.5x10.3mm*P1.27mm*; Footprint: Package_SO:SOIC-16W_7.5x10.3mm_P1.27mm; Supplier: https://www.silabs.com/documents/public/data-sheets/si864x-datasheet.pdf
footprint SOIC-16W_7.5x10.3mm_P1.27mm
pins: 1 VDD1 (power), 2 GND1 (power), 3 A1 (in), 4 A2 (in), 5 A3 (out), 6 A4 (out), 7 EN1 (in), 8 GND1 hidden, 9 GND2 hidden, 10 EN2 (in), 11 B4 (in), 12 B3 (in), 13 B2 (out), 14 B1 (out), 15 GND2 (power), 16 VDD2 (power)

## Si8645BA-B-IU
designator *  value Si8645BA-B-IU
ki_keywords: 4Ch 4In Quad Digital Isolator 150Mbps; ki_description: Low-Power Quad-Channel Digital Isolator, 150Mbps, 2.5-5.5V, 1.0kV isolation, Fail-Safe Low, QSOP-16; ki_fp_filters: QSOP*3.9x4.9mm*P0.635mm*; Footprint: Package_SO:QSOP-16_3.9x4.9mm_P0.635mm; Supplier: https://www.silabs.com/documents/public/data-sheets/si864x-datasheet.pdf
footprint QSOP-16_3.9x4.9mm_P0.635mm
pins: 1 VDD1 (power), 2 GND1 (power), 3 A1 (in), 4 A2 (in), 5 A3 (in), 6 A4 (in), 7 NC (in) hidden, 8 GND1 hidden, 9 GND2 hidden, 10 NC (in) hidden, 11 B4 (out), 12 B3 (out), 13 B2 (out), 14 B1 (out), 15 GND2 (power), 16 VDD2 (power)

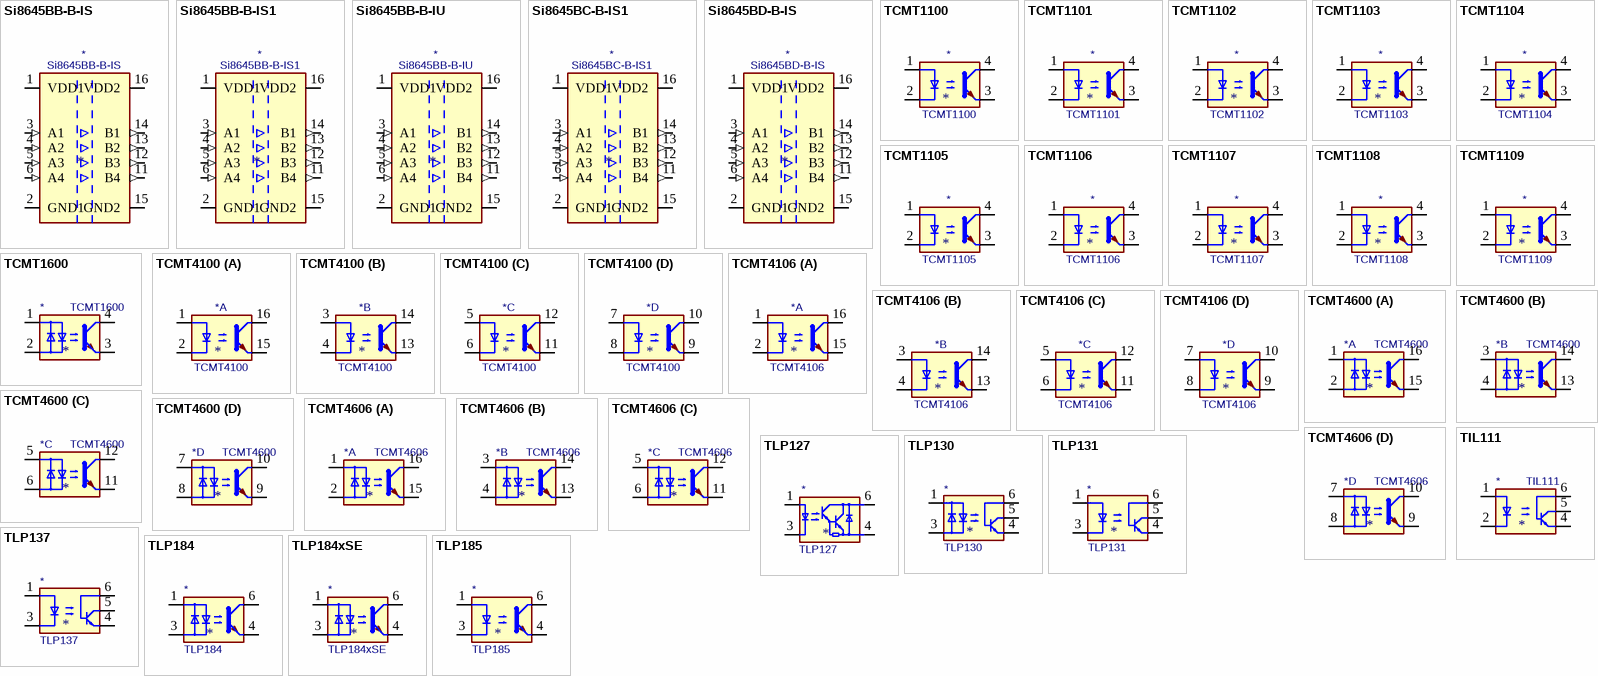
[diagram p7: symbols Si8645BB-B-IS to TLP185]

## Si8645BB-B-IS
designator *  value Si8645BB-B-IS
ki_keywords: 4Ch 4In Quad Digital Isolator 150Mbps; ki_description: Low-Power Quad-Channel Digital Isolator, 150Mbps, 2.5-5.5V, 2.5kV isolation, Fail-Safe Low, SOIC-16W; ki_fp_filters: SOIC*7.5x10.3mm*P1.27mm*; Footprint: Package_SO:SOIC-16W_7.5x10.3mm_P1.27mm; Supplier: https://www.silabs.com/documents/public/data-sheets/si864x-datasheet.pdf
footprint SOIC-16W_7.5x10.3mm_P1.27mm
pins: 1 VDD1 (power), 2 GND1 (power), 3 A1 (in), 4 A2 (in), 5 A3 (in), 6 A4 (in), 7 NC (in) hidden, 8 GND1 hidden, 9 GND2 hidden, 10 NC (in) hidden, 11 B4 (out), 12 B3 (out), 13 B2 (out), 14 B1 (out), 15 GND2 (power), 16 VDD2 (power)

## Si8645BB-B-IS1
designator *  value Si8645BB-B-IS1
ki_keywords: 4Ch 4In Quad Digital Isolator 150Mbps; ki_description: Low-Power Quad-Channel Digital Isolator, 150Mbps, 2.5-5.5V, 2.5kV isolation, Fail-Safe Low, SOIC-16; ki_fp_filters: SOIC*3.9x9.9mm*P1.27mm*; Footprint: Package_SO:SOIC-16_3.9x9.9mm_P1.27mm; Supplier: https://www.silabs.com/documents/public/data-sheets/si864x-datasheet.pdf
footprint SOIC-16_3.9x9.9mm_P1.27mm
pins: 1 VDD1 (power), 2 GND1 (power), 3 A1 (in), 4 A2 (in), 5 A3 (in), 6 A4 (in), 7 NC (in) hidden, 8 GND1 hidden, 9 GND2 hidden, 10 NC (in) hidden, 11 B4 (out), 12 B3 (out), 13 B2 (out), 14 B1 (out), 15 GND2 (power), 16 VDD2 (power)

## Si8645BB-B-IU
designator *  value Si8645BB-B-IU
ki_keywords: 4Ch 4In Quad Digital Isolator 150Mbps; ki_description: Low-Power Quad-Channel Digital Isolator, 150Mbps, 2.5-5.5V, 2.5kV isolation, Fail-Safe Low, QSOP-16; ki_fp_filters: QSOP*3.9x4.9mm*P0.635mm*; Footprint: Package_SO:QSOP-16_3.9x4.9mm_P0.635mm; Supplier: https://www.silabs.com/documents/public/data-sheets/si864x-datasheet.pdf
footprint QSOP-16_3.9x4.9mm_P0.635mm
pins: 1 VDD1 (power), 2 GND1 (power), 3 A1 (in), 4 A2 (in), 5 A3 (in), 6 A4 (in), 7 NC (in) hidden, 8 GND1 hidden, 9 GND2 hidden, 10 NC (in) hidden, 11 B4 (out), 12 B3 (out), 13 B2 (out), 14 B1 (out), 15 GND2 (power), 16 VDD2 (power)

## Si8645BC-B-IS1
designator *  value Si8645BC-B-IS1
ki_keywords: 4Ch 4In Quad Digital Isolator 150Mbps; ki_description: Low-Power Quad-Channel Digital Isolator, 150Mbps, 2.5-5.5V, 3.75kV isolation, Fail-Safe Low, SOIC-16; ki_fp_filters: SOIC*3.9x9.9mm*P1.27mm*; Footprint: Package_SO:SOIC-16_3.9x9.9mm_P1.27mm; Supplier: https://www.silabs.com/documents/public/data-sheets/si864x-datasheet.pdf
footprint SOIC-16_3.9x9.9mm_P1.27mm
pins: 1 VDD1 (power), 2 GND1 (power), 3 A1 (in), 4 A2 (in), 5 A3 (in), 6 A4 (in), 7 NC (in) hidden, 8 GND1 hidden, 9 GND2 hidden, 10 NC (in) hidden, 11 B4 (out), 12 B3 (out), 13 B2 (out), 14 B1 (out), 15 GND2 (power), 16 VDD2 (power)

## Si8645BD-B-IS
designator *  value Si8645BD-B-IS
ki_keywords: 4Ch 4In Quad Digital Isolator 150Mbps; ki_description: Low-Power Quad-Channel Digital Isolator, 150Mbps, 2.5-5.5V, 5.0kV isolation, Fail-Safe Low, SOIC-16W; ki_fp_filters: SOIC*7.5x10.3mm*P1.27mm*; Footprint: Package_SO:SOIC-16W_7.5x10.3mm_P1.27mm; Supplier: https://www.silabs.com/documents/public/data-sheets/si864x-datasheet.pdf
footprint SOIC-16W_7.5x10.3mm_P1.27mm
pins: 1 VDD1 (power), 2 GND1 (power), 3 A1 (in), 4 A2 (in), 5 A3 (in), 6 A4 (in), 7 NC (in) hidden, 8 GND1 hidden, 9 GND2 hidden, 10 NC (in) hidden, 11 B4 (out), 12 B3 (out), 13 B2 (out), 14 B1 (out), 15 GND2 (power), 16 VDD2 (power)

## TCMT1100
designator *  value TCMT1100
ki_keywords: NPN DC opto; ki_description: Optocoupler, Vce 70V, CTR 50-600%, Viso 3750V (RMS), SOP-4; ki_fp_filters: SOP*4.4x2.6mm*P1.27mm*; Footprint: Package_SO:SOP-4_4.4x2.6mm_P1.27mm; Supplier: http://www.vishay.com/docs/83510/tcmt1100.pdf
footprint SOP-4_4.4x2.6mm_P1.27mm
pins: 1, 2, 3, 4

## TCMT1101
designator *  value TCMT1101
ki_keywords: NPN DC opto; ki_description: Optocoupler, Vce 70V, CTR 40-80%, Viso 3750V (RMS), SOP-4; ki_fp_filters: SOP*4.4x2.6mm*P1.27mm*; Footprint: Package_SO:SOP-4_4.4x2.6mm_P1.27mm; Supplier: http://www.vishay.com/docs/83510/tcmt1100.pdf
footprint SOP-4_4.4x2.6mm_P1.27mm
pins: 1, 2, 3, 4

## TCMT1102
designator *  value TCMT1102
ki_keywords: NPN DC opto; ki_description: Optocoupler, Vce 70V, CTR 63-125%, Viso 3750V (RMS), SOP-4; ki_fp_filters: SOP*4.4x2.6mm*P1.27mm*; Footprint: Package_SO:SOP-4_4.4x2.6mm_P1.27mm; Supplier: http://www.vishay.com/docs/83510/tcmt1100.pdf
footprint SOP-4_4.4x2.6mm_P1.27mm
pins: 1, 2, 3, 4

## TCMT1103
designator *  value TCMT1103
ki_keywords: NPN DC opto; ki_description: Optocoupler, Vce 70V, CTR 100-200%, Viso 3750V (RMS), SOP-4; ki_fp_filters: SOP*4.4x2.6mm*P1.27mm*; Footprint: Package_SO:SOP-4_4.4x2.6mm_P1.27mm; Supplier: http://www.vishay.com/docs/83510/tcmt1100.pdf
footprint SOP-4_4.4x2.6mm_P1.27mm
pins: 1, 2, 3, 4

## TCMT1104
designator *  value TCMT1104
ki_keywords: NPN DC opto; ki_description: Optocoupler, Vce 70V, CTR 160-320%, Viso 3750V (RMS), SOP-4; ki_fp_filters: SOP*4.4x2.6mm*P1.27mm*; Footprint: Package_SO:SOP-4_4.4x2.6mm_P1.27mm; Supplier: http://www.vishay.com/docs/83510/tcmt1100.pdf
footprint SOP-4_4.4x2.6mm_P1.27mm
pins: 1, 2, 3, 4

## TCMT1105
designator *  value TCMT1105
ki_keywords: NPN DC opto; ki_description: Optocoupler, Vce 70V, CTR 50-150%, Viso 3750V (RMS), SOP-4; ki_fp_filters: SOP*4.4x2.6mm*P1.27mm*; Footprint: Package_SO:SOP-4_4.4x2.6mm_P1.27mm; Supplier: http://www.vishay.com/docs/83510/tcmt1100.pdf
footprint SOP-4_4.4x2.6mm_P1.27mm
pins: 1, 2, 3, 4

## TCMT1106
designator *  value TCMT1106
ki_keywords: NPN DC opto; ki_description: Optocoupler, Vce 70V, CTR 100-300%, Viso 3750V (RMS), SOP-4; ki_fp_filters: SOP*4.4x2.6mm*P1.27mm*; Footprint: Package_SO:SOP-4_4.4x2.6mm_P1.27mm; Supplier: http://www.vishay.com/docs/83510/tcmt1100.pdf
footprint SOP-4_4.4x2.6mm_P1.27mm
pins: 1, 2, 3, 4

## TCMT1107
designator *  value TCMT1107
ki_keywords: NPN DC opto; ki_description: Optocoupler, Vce 70V, CTR 80-160%, Viso 3750V (RMS), SOP-4; ki_fp_filters: SOP*4.4x2.6mm*P1.27mm*; Footprint: Package_SO:SOP-4_4.4x2.6mm_P1.27mm; Supplier: http://www.vishay.com/docs/83510/tcmt1100.pdf
footprint SOP-4_4.4x2.6mm_P1.27mm
pins: 1, 2, 3, 4

## TCMT1108
designator *  value TCMT1108
ki_keywords: NPN DC opto; ki_description: Optocoupler, Vce 70V, CTR 130-260%, Viso 3750V (RMS), SOP-4; ki_fp_filters: SOP*4.4x2.6mm*P1.27mm*; Footprint: Package_SO:SOP-4_4.4x2.6mm_P1.27mm; Supplier: http://www.vishay.com/docs/83510/tcmt1100.pdf
footprint SOP-4_4.4x2.6mm_P1.27mm
pins: 1, 2, 3, 4

## TCMT1109
designator *  value TCMT1109
ki_keywords: NPN DC opto; ki_description: Optocoupler, Vce 70V, CTR 200-400%, Viso 3750V (RMS), SOP-4; ki_fp_filters: SOP*4.4x2.6mm*P1.27mm*; Footprint: Package_SO:SOP-4_4.4x2.6mm_P1.27mm; Supplier: http://www.vishay.com/docs/83510/tcmt1100.pdf
footprint SOP-4_4.4x2.6mm_P1.27mm
pins: 1, 2, 3, 4

## TCMT1600
designator *  value TCMT1600
ki_keywords: NPN AC DC Phototransistor Optocoupler; ki_description: AC/DC Phototransistor Optocoupler, Vce 70V, CTR 80-300%, SOP4; ki_fp_filters: SOP*4*4.4x2.6mm*P1.27mm*; Footprint: Package_SO:SOP-4_4.4x2.6mm_P1.27mm; Supplier: http://www.vishay.com/docs/83512/tcmt1600.pdf
footprint SOP-4_4.4x2.6mm_P1.27mm
pins: 1, 2, 3, 4

## TCMT4100
designator *  value TCMT4100
ki_keywords: NPN DC opto; ki_description: Quad Optocoupler, Vce 70V, CTR 50-600%, Viso 3750V (RMS), SOP-16; ki_fp_filters: SOP*4.4x10.4mm*P1.27mm*; Footprint: Package_SO:SOP-16_4.4x10.4mm_P1.27mm; Supplier: https://www.vishay.com/docs/84181/tcmt4100.pdf
footprint SOP-16_4.4x10.4mm_P1.27mm
part A pins: 1, 2, 15, 16
part B pins: 3, 4, 13, 14
part C pins: 5, 6, 11, 12
part D pins: 7, 8, 9, 10

## TCMT4106
designator *  value TCMT4106
ki_keywords: NPN DC opto; ki_description: Quad Optocoupler, Vce 70V, CTR 100-300%, Viso 3750V (RMS), SOP-16; ki_fp_filters: SOP*4.4x10.4mm*P1.27mm*; Footprint: Package_SO:SOP-16_4.4x10.4mm_P1.27mm; Supplier: https://www.vishay.com/docs/84181/tcmt4100.pdf
footprint SOP-16_4.4x10.4mm_P1.27mm
part A pins: 1, 2, 15, 16
part B pins: 3, 4, 13, 14
part C pins: 5, 6, 11, 12
part D pins: 7, 8, 9, 10

## TCMT4600
designator *  value TCMT4600
ki_keywords: NPN AC DC Quad Phototransistor Optocoupler; ki_description: Quad AC/DC Phototransistor Optocoupler, Vce 70V, CTR 80-300%, SOP16; ki_fp_filters: SOP*4.55x10.3mm*P1.27mm*; Footprint: Package_SO:SOP-16_4.55x10.3mm_P1.27mm; Supplier: http://www.vishay.com/docs/83512/tcmt1600.pdf
footprint SOP-16_4.55x10.3mm_P1.27mm
part A pins: 1, 2, 15, 16
part B pins: 3, 4, 13, 14
part C pins: 5, 6, 11, 12
part D pins: 7, 8, 9, 10

## TCMT4606
designator *  value TCMT4606
ki_keywords: NPN AC DC Quad Phototransistor Optocoupler; ki_description: Quad AC/DC Phototransistor Optocoupler, Vce 70V, CTR 100-300%, SOP16; ki_fp_filters: SOP*4.55x10.3mm*P1.27mm*; Footprint: Package_SO:SOP-16_4.55x10.3mm_P1.27mm; Supplier: http://www.vishay.com/docs/83512/tcmt1600.pdf
footprint SOP-16_4.55x10.3mm_P1.27mm
part A pins: 1, 2, 15, 16
part B pins: 3, 4, 13, 14
part C pins: 5, 6, 11, 12
part D pins: 7, 8, 9, 10

## TIL111
designator *  value TIL111
ki_keywords: NPN DC Optocoupler Base Connected; ki_description: DC Optocoupler, Phototransistor NPN, DIP6; ki_fp_filters: DIP*W7.62mm*; Footprint: Package_DIP:DIP-6_W7.62mm; Supplier: https://www.egr.msu.edu/eceshop/Parts_Inventory/datasheets/til111.pdf
footprint DIP-6_W7.62mm
pins: 1, 2, 3 NC (in) hidden, 4, 5, 6

## TLP127
designator *  value TLP127
ki_keywords: NPN Darlington DC Optocoupler; ki_description: DC Darlington Optocoupler, Vce 300V, CTR 1000%, MFSOP4; ki_fp_filters: MFSOP6*4.4x3.6mm*P1.27mm*; Footprint: Package_SO:MFSOP6-4_4.4x3.6mm_P1.27mm; Supplier: https://toshiba.semicon-storage.com/info/docget.jsp?did=16902&prodName=TLP127
footprint MFSOP6-4_4.4x3.6mm_P1.27mm
pins: 1, 3, 4, 6 (oc)

## TLP130
designator *  value TLP130
ki_keywords: NPN AC DC Optocoupler Base Connected; ki_description: AC DC Optocoupler Base Connected, Vce 80V, CTR 50-100%, MFSOP6; ki_fp_filters: MFSOP6*4.4x3.6mm*P1.27mm*; Footprint: Package_SO:MFSOP6-5_4.4x3.6mm_P1.27mm; Supplier: https://toshiba.semicon-storage.com/info/docget.jsp?did=16740&prodName=TLP130
footprint MFSOP6-5_4.4x3.6mm_P1.27mm
pins: 1, 3, 4, 5 (oc), 6

## TLP131
designator *  value TLP131
ki_keywords: NPN DC Optocoupler Base Connected; ki_description: DC Optocoupler Base Connected, Vce 80V, CTR 50-200%, MFSOP6; ki_fp_filters: MFSOP6*4.4x3.6mm*P1.27mm*; Footprint: Package_SO:MFSOP6-5_4.4x3.6mm_P1.27mm; Supplier: https://toshiba.semicon-storage.com/info/docget.jsp?did=16742&prodName=TLP131
footprint MFSOP6-5_4.4x3.6mm_P1.27mm
pins: 1, 3, 4, 5 (oc), 6

## TLP137
designator *  value TLP137
ki_keywords: NPN DC Optocoupler Base Connected; ki_description: DC Optocoupler Base Connected, Vce 80V, CTR 100-200%, MFSOP6; ki_fp_filters: MFSOP6*4.4x3.6mm*P1.27mm*; Footprint: Package_SO:MFSOP6-5_4.4x3.6mm_P1.27mm; Supplier: https://toshiba.semicon-storage.com/info/docget.jsp?did=16744&prodName=TLP137
footprint MFSOP6-5_4.4x3.6mm_P1.27mm
pins: 1, 3, 4, 5 (oc), 6

## TLP184
designator *  value TLP184
ki_keywords: NPN AC DC Optocoupler; ki_description: AC/DC Optocoupler, Vce 80V, CTR 50-100%, MFSOP6; ki_fp_filters: MFSOP6*4.4x3.6mm*P1.27mm*; Footprint: Package_SO:MFSOP6-4_4.4x3.6mm_P1.27mm; Supplier: https://toshiba.semicon-storage.com/info/docget.jsp?did=11793&prodName=TLP184
footprint MFSOP6-4_4.4x3.6mm_P1.27mm
pins: 1, 3, 4, 6

## TLP184xSE
designator *  value TLP184xSE
ki_keywords: NPN AC DC Optocoupler; ki_description: AC/DC Optocoupler, Vce 80V, CTR 50-100%, MFSOP6; ki_fp_filters: MFSOP6*4.4x3.6mm*P1.27mm*; Footprint: Package_SO:MFSOP6-4_4.4x3.6mm_P1.27mm; Supplier: https://toshiba.semicon-storage.com/info/docget.jsp?did=14118&prodName=TLP184(SE
footprint MFSOP6-4_4.4x3.6mm_P1.27mm
pins: 1, 3, 4, 6

## TLP185
designator *  value TLP185
ki_keywords: NPN DC Optocoupler; ki_description: DC Optocoupler, Vce 80V, CTR 50-100%, MFSOP6; ki_fp_filters: SOIC*4.55x3.7mm*P2.54mm*; Footprint: Package_SO:SOIC-4_4.55x3.7mm_P2.54mm; Supplier: https://toshiba.semicon-storage.com/info/docget.jsp?did=11791&prodName=TLP185
footprint SOIC-4_4.55x3.7mm_P2.54mm
pins: 1, 3, 4, 6

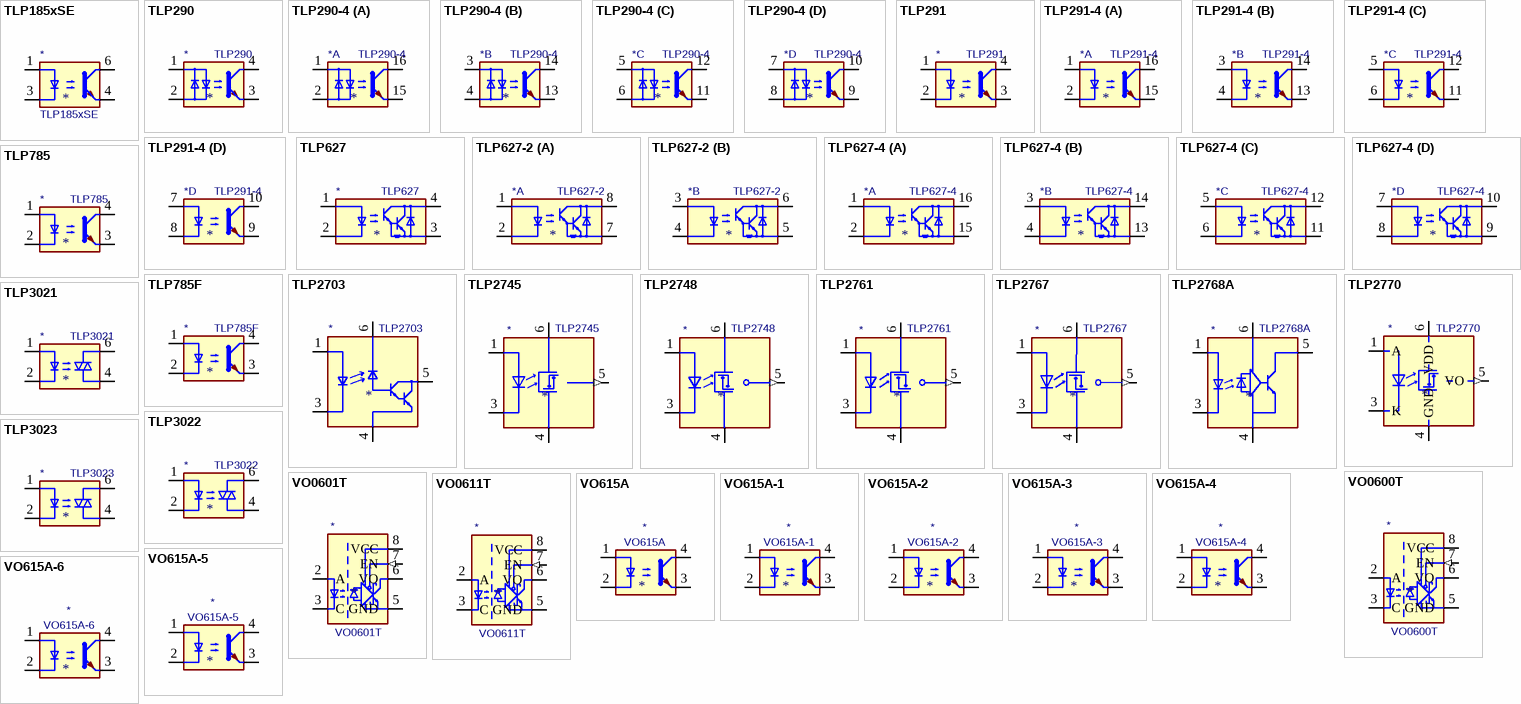
[diagram p8: symbols TLP185xSE to VO615A-6]

## TLP185xSE
designator *  value TLP185xSE
ki_keywords: NPN DC Optocoupler; ki_description: DC Optocoupler, Vce 80V, CTR 50-100%, MFSOP6; ki_fp_filters: SOIC*4.55x3.7mm*P2.54mm*; Footprint: Package_SO:SOIC-4_4.55x3.7mm_P2.54mm; Supplier: https://toshiba.semicon-storage.com/info/docget.jsp?did=14111&prodName=TLP185(SE
footprint SOIC-4_4.55x3.7mm_P2.54mm
pins: 1, 3, 4, 6

## TLP290
designator *  value TLP290
ki_keywords: NPN AC DC Phototransistor Optocoupler; ki_description: AC/DC Phototransistor Optocoupler, Vce 80V, CTR 50-600%, not recommended for new designs, SOP4; ki_fp_filters: SOP*4*4.4x2.6mm*P1.27mm*; Footprint: Package_SO:SOP-4_4.4x2.6mm_P1.27mm; Supplier: https://toshiba.semicon-storage.com/info/docget.jsp?did=12882&prodName=TLP290
footprint SOP-4_4.4x2.6mm_P1.27mm
pins: 1, 2, 3, 4

## TLP290-4
designator *  value TLP290-4
ki_keywords: NPN AC DC Quad Phototransistor Optocoupler; ki_description: Quad AC/DC Phototransistor Optocoupler, Vce 80V, CTR 50-600%, SOP16; ki_fp_filters: SOP*4.55x10.3mm*P1.27mm*; Footprint: Package_SO:SOP-16_4.55x10.3mm_P1.27mm; Supplier: https://toshiba.semicon-storage.com/info/docget.jsp?did=12855&prodName=TLP290-4
footprint SOP-16_4.55x10.3mm_P1.27mm
part A pins: 1, 2, 15, 16
part B pins: 3, 4, 13, 14
part C pins: 5, 6, 11, 12
part D pins: 7, 8, 9, 10

## TLP291
designator *  value TLP291
ki_keywords: NPN DC Optocoupler; ki_description: DC Optocoupler, Vce 80V, CTR 50-100%, SOP4; ki_fp_filters: SOIC*4.55x2.6mm*P1.27mm*; Footprint: Package_SO:SOIC-4_4.55x2.6mm_P1.27mm; Supplier: https://toshiba.semicon-storage.com/info/docget.jsp?did=12884&prodName=TLP291
footprint SOIC-4_4.55x2.6mm_P1.27mm
pins: 1, 2, 3, 4

## TLP291-4
designator *  value TLP291-4
ki_keywords: NPN DC Quad Optocoupler; ki_description: Quad DC Optocoupler, Vce 80V, CTR 50-100%, SOP16; ki_fp_filters: SOIC*4.55x10.3mm*P1.27mm*; Footprint: Package_SO:SOIC-16_4.55x10.3mm_P1.27mm; Supplier: https://toshiba.semicon-storage.com/info/docget.jsp?did=12858&prodName=TLP291-4
footprint SOIC-16_4.55x10.3mm_P1.27mm
part A pins: 1, 2, 15, 16
part B pins: 3, 4, 13, 14
part C pins: 5, 6, 11, 12
part D pins: 7, 8, 9, 10

## TLP627
designator *  value TLP627
ki_keywords: NPN Darlington DC Optocoupler; ki_description: DC Darlington Optocoupler, Vce 300V, CTR 1000%, DIP4; ki_fp_filters: DIP*W7.62mm*; Footprint: Package_DIP:DIP-4_W7.62mm; Supplier: https://toshiba.semicon-storage.com/info/docget.jsp?did=16914&prodName=TLP627
footprint DIP-4_W7.62mm
pins: 1, 2, 3, 4

## TLP627-2
designator *  value TLP627-2
ki_keywords: NPN Dual Darlington DC Optocoupler; ki_description: DC Dual Darlington Optocoupler, Vce 300V, CTR 1000%, DIP8; ki_fp_filters: DIP*W7.62mm*; Footprint: Package_DIP:DIP-8_W7.62mm; Supplier: https://toshiba.semicon-storage.com/info/docget.jsp?did=16914&prodName=TLP627
footprint DIP-8_W7.62mm
part A pins: 1, 2, 7, 8
part B pins: 3, 4, 5, 6

## TLP627-4
designator *  value TLP627-4
ki_keywords: NPN Quad Darlington DC Optocoupler; ki_description: DC Quad Darlington Optocoupler, Vce 300V, CTR 1000%, DIP16; ki_fp_filters: DIP*W7.62mm*; Footprint: Package_DIP:DIP-16_W7.62mm; Supplier: https://toshiba.semicon-storage.com/info/docget.jsp?did=16914&prodName=TLP627
footprint DIP-16_W7.62mm
part A pins: 1, 2, 15, 16
part B pins: 3, 4, 13, 14
part C pins: 5, 6, 11, 12
part D pins: 7, 8, 9, 10

## TLP785
designator *  value TLP785
ki_keywords: NPN DC Optocoupler; ki_description: DC Optocoupler, Vce 80V, CTR 50-200%, DIP4; ki_fp_filters: DIP*W7.62mm*; Footprint: Package_DIP:DIP-4_W7.62mm; Supplier: https://toshiba.semicon-storage.com/info/docget.jsp?did=10569&prodName=TLP785
footprint DIP-4_W7.62mm
pins: 1, 2, 3, 4

## TLP785F
designator *  value TLP785F
ki_keywords: NPN DC Optocoupler; ki_description: DC Optocoupler, Vce 80V, CTR 50-200%, DIP4F; ki_fp_filters: DIP*W10.16mm*; Footprint: Package_DIP:DIP-4_W10.16mm; Supplier: https://toshiba.semicon-storage.com/info/docget.jsp?did=10569&prodName=TLP785F
footprint DIP-4_W10.16mm
pins: 1, 2, 3, 4

## TLP2703
designator *  value TLP2703
ki_keywords: NPN Darlington DC Optocoupler; ki_description: 100 kbps, High-speed GaA&As, high-gain, 4.5 - 18 VCC, 5 kVrms, CTR 900%, SO-6L; ki_fp_filters: SO*6L*10x3.84mm*P1.27mm*; Footprint: Package_SO:SO-6L_10x3.84mm_P1.27mm; Supplier: https://toshiba.semicon-storage.com/info/docget.jsp?did=15216&prodName=TLP2703
footprint SO-6L_10x3.84mm_P1.27mm
pins: 1 A, 2 NC (in) hidden, 3 K, 4 GND (power), 5 Out (oc), 6 VCC (power)

## TLP2745
designator *  value TLP2745
ki_keywords: Photocouple highspeed non inverting push-pull output; ki_description: 10-Mbps low-power non inverting photocouple,5 kVrms, 4.5 - 30 Vdd, push-pull output; ki_fp_filters: SO*6L*10x3.84mm*P1.27mm*; Footprint: Package_SO:SO-6L_10x3.84mm_P1.27mm; Supplier: https://toshiba.semicon-storage.com/info/docget.jsp?did=29405&prodName=TLP2745
footprint SO-6L_10x3.84mm_P1.27mm
pins: 1 A, 2 NC (in) hidden, 3 K, 4 GND (power), 5 VO (out), 6 VDD (power)

## TLP2748
designator *  value TLP2748
ki_keywords: Photocouple highspeed inverting push-pull output; ki_description: 10-Mbps inverting photocouple,5 kVrms, 4.5 - 30 Vdd, push-pull output, SO-6L; ki_fp_filters: SO*6L*10x3.84mm*P1.27mm*; Footprint: Package_SO:SO-6L_10x3.84mm_P1.27mm; Supplier: https://toshiba.semicon-storage.com/info/docget.jsp?did=29407&prodName=TLP2748
footprint SO-6L_10x3.84mm_P1.27mm
pins: 1 A, 2 NC (in) hidden, 3 K, 4 GND (power), 5 VO (out), 6 VDD (power)

## TLP2761
designator *  value TLP2761
ki_keywords: Photocouple highspeed inverting push-pull output; ki_description: 15-Mbps inverting photocouple,5 kVrms, 2.7 - 5.5 Vdd, push-pull output; ki_fp_filters: SO*6L*10x3.84mm*P1.27mm*; Footprint: Package_SO:SO-6L_10x3.84mm_P1.27mm; Supplier: https://toshiba.semicon-storage.com/info/docget.jsp?did=28819&prodName=TLP2761
footprint SO-6L_10x3.84mm_P1.27mm
pins: 1 A, 2 NC (in) hidden, 3 K, 4 GND (power), 5 VO (out), 6 VDD (power)

## TLP2767
designator *  value TLP2767
ki_keywords: Photocouple highspeed non inverting push-pull output; ki_description: 50-Mbps high speed inverting photocouple,5 kVrms, 2.7 - 5.5 Vdd, push-pull output; ki_fp_filters: SO*6L*10x3.84mm*P1.27mm*; Footprint: Package_SO:SO-6L_10x3.84mm_P1.27mm; Supplier: https://toshiba.semicon-storage.com/info/docget.jsp?did=36717&prodName=TLP2767
footprint SO-6L_10x3.84mm_P1.27mm
pins: 1 A, 2 NC (in) hidden, 3 K, 4 GND (power), 5 VO (out), 6 VDD (power)

## TLP2768A
designator *  value TLP2768A
ki_keywords: Photocouple highspeed inverting open collector output; ki_description: 20-Mbps high speed inverting photocouple,5 kVrms, 2.7 - 5.5 Vdd, open collector, SO-6L; ki_fp_filters: SO*6L*10x3.84mm*P1.27mm*; Footprint: Package_SO:SO-6L_10x3.84mm_P1.27mm; Supplier: https://toshiba.semicon-storage.com/info/docget.jsp?did=36717&prodName=TLP2768A
footprint SO-6L_10x3.84mm_P1.27mm
pins: 1 A, 2 NC (in) hidden, 3 K, 4 GND (power), 5 VO (oc), 6 VDD (power)

## TLP2770
designator *  value TLP2770
ki_keywords: Photocouple highspeed non inverting push-pull output; ki_description: 20-Mbps low-power non inverting photocouple,5 kVrms, 2.7 to 5.5 Vdd, push-pull output, SO-6L; ki_fp_filters: SO*6L*10x3.84mm*P1.27mm*; Footprint: Package_SO:SO-6L_10x3.84mm_P1.27mm; Supplier: https://toshiba.semicon-storage.com/info/docget.jsp?did=53548&prodName=TLP2770
footprint SO-6L_10x3.84mm_P1.27mm
pins: 1 A, 2 NC (in) hidden, 3 K, 4 GND (power), 5 VO (out), 6 VDD (power)

## TLP3021
designator *  value TLP3021
ki_keywords: Photo-Triac Opto Triac; ki_description: Photo-Triac, Vdrm 400V, Ift 15mA, DIP6; ki_fp_filters: Toshiba*11?7A9*; Footprint: Package_DIP:Toshiba_11-7A9; Supplier: https://toshiba.semicon-storage.com/info/docget.jsp?did=1421&prodName=TLP3021(S)
footprint Toshiba_11-7A9
pins: 1, 2, 3 NC (in) hidden, 4, 6

## TLP3022
designator *  value TLP3022
ki_keywords: Photo-Triac Opto Triac; ki_description: Photo-Triac, Vdrm 400V, Ift 10mA, DIP6; ki_fp_filters: Toshiba*11?7A9*; Footprint: Package_DIP:Toshiba_11-7A9; Supplier: https://toshiba.semicon-storage.com/info/docget.jsp?did=1421&prodName=TLP3021(S)
footprint Toshiba_11-7A9
pins: 1, 2, 3 NC (in) hidden, 4, 6